# Altium integrated library diode.IntLib: 322 symbols
Pins are listed as number, name and electrical type; pins without a type are passive.

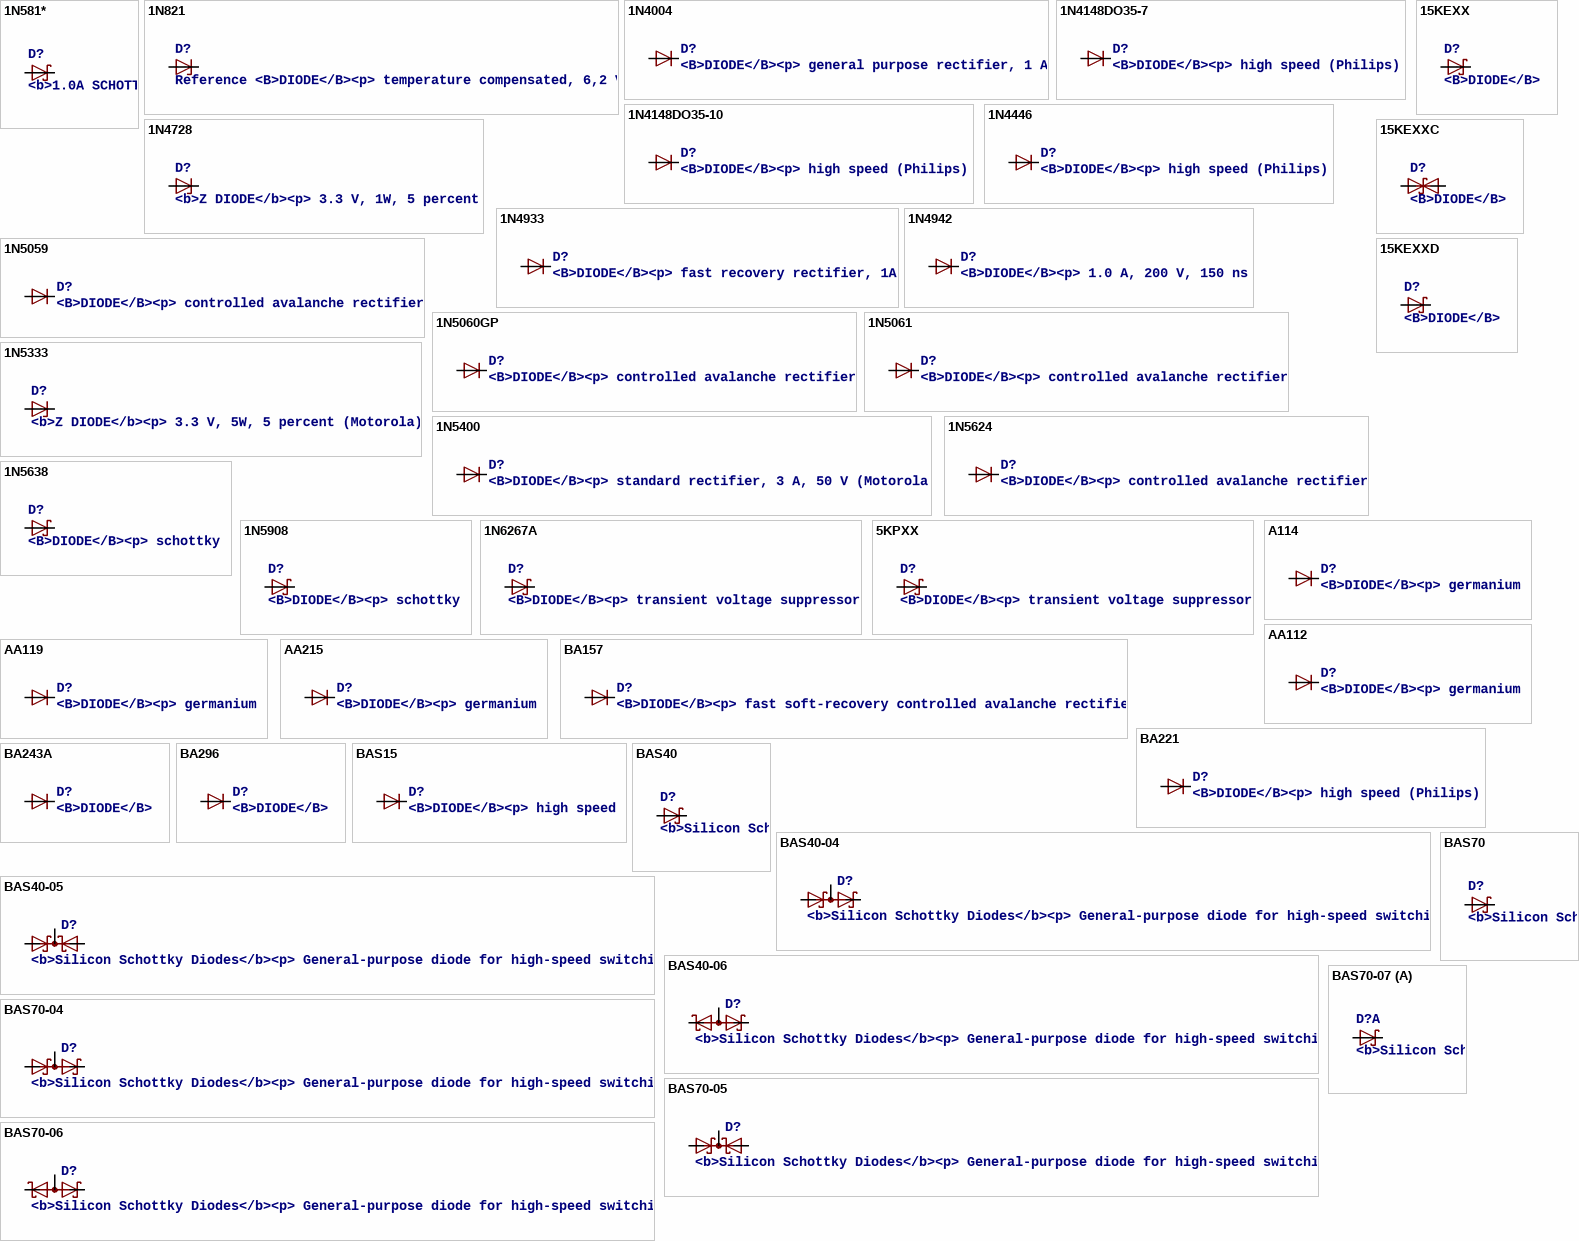
[diagram p0: symbols 1N581* to BAS70-07]

## 1N581*
designator D?, comment <b>1.0A SCHOTTKY BARRIER RECTIFIER</b><p> / Source: http://www.diodes.com/datasheets/ds23001.pdf
footprint DO41-7.6
pins: A, C

## 1N821
designator D?, comment Reference <B>DIODE</B><p> / temperature compensated, 6,2 V
footprint DO35Z10
pins: A, C

## 1N4004
designator D?, comment <B>DIODE</B><p> / general purpose rectifier, 1 A
footprint DO41-10
pins: A, C

## 1N4148DO35-7
designator D?, comment <B>DIODE</B><p> / high speed (Philips)
footprint DO35-7
pins: A, C

## 1N4148DO35-10
designator D?, comment <B>DIODE</B><p> / high speed (Philips)
footprint DO35-10
pins: A, C

## 1N4446
designator D?, comment <B>DIODE</B><p> / high speed (Philips)
footprint DO35-10
pins: A, C

## 1N4728
designator D?, comment <b>Z DIODE</b><p> / 3.3 V, 1W, 5 percent
footprint DO41Z10
pins: A, C

## 1N4933
designator D?, comment <B>DIODE</B><p> / fast recovery rectifier, 1A
footprint DO41-10
pins: A, C

## 1N4942
designator D?, comment <B>DIODE</B><p> / 1.0 A, 200 V, 150 ns
footprint DO41-10
pins: A, C

## 1N5059
designator D?, comment <B>DIODE</B><p> / controlled avalanche rectifier
footprint DO204-10
pins: A, C

## 1N5060GP
designator D?, comment <B>DIODE</B><p> / controlled avalanche rectifier
footprint DO15-12
pins: A, C

## 1N5061
designator D?, comment <B>DIODE</B><p> / controlled avalanche rectifier
footprint SOD57-10
pins: A, C

## 1N5333
designator D?, comment <b>Z DIODE</b><p> / 3.3 V, 5W, 5 percent (Motorola)
footprint C1702-15
pins: A, C

## 1N5400
designator D?, comment <B>DIODE</B><p> / standard rectifier, 3 A, 50 V (Motorola)
footprint DO201-15
pins: A, C

## 1N5624
designator D?, comment <B>DIODE</B><p> / controlled avalanche rectifier
footprint DO201-15
pins: A, C

## 1N5638
designator D?, comment <B>DIODE</B><p> / schottky
footprint DO13M
pins: A, C

## 1N5908
designator D?, comment <B>DIODE</B><p> / schottky
footprint C4111-15
pins: A, C

## 1N6267A
designator D?, comment <B>DIODE</B><p> / transient voltage suppressor
footprint C4111-15
pins: A, C

## 5KPXX
designator D?, comment <B>DIODE</B><p> / transient voltage suppressor
footprint P6T15
pins: A, C

## 15KEXX
designator D?, comment <B>DIODE</B>
footprint CB429-17
pins: A, C

## 15KEXXC
designator D?, comment <B>DIODE</B>
footprint CB429-17
pins: A 1, C 2

## 15KEXXD
designator D?, comment <B>DIODE</B>
footprint DO201T15
pins: A, C

## A114
designator D?, comment <B>DIODE</B><p> / germanium
footprint DO204-10
pins: A, C

## AA112
designator D?, comment <B>DIODE</B><p> / germanium
footprint DO07
pins: A, C

## AA119
designator D?, comment <B>DIODE</B><p> / germanium
footprint DO07
pins: A, C

## AA215
designator D?, comment <B>DIODE</B><p> / germanium
footprint DO07
pins: A, C

## BA157
designator D?, comment <B>DIODE</B><p> / fast soft-recovery controlled avalanche rectifier
footprint P1-10
pins: A, C

## BA221
designator D?, comment <B>DIODE</B><p> / high speed (Philips)
footprint DO35-10
pins: A, C

## BA243A
designator D?, comment <B>DIODE</B>
footprint DO35-10
pins: A, C

## BA296
designator D?, comment <B>DIODE</B>
footprint P2-15
pins: A, C

## BAS15
designator D?, comment <B>DIODE</B><p> / high speed
footprint DO34-7
pins: A, C

## BAS40
designator D?, comment <b>Silicon Schottky Diodes</b><p> / General-purpose diode for high-speed switching
footprint SOT23
pins: 1 A, 3 C

## BAS40-04
designator D?, comment <b>Silicon Schottky Diodes</b><p> / General-purpose diode for high-speed switching
footprint SOT23
pins: 1 A1, 2 C2, 3 C1A2

## BAS40-05
designator D?, comment <b>Silicon Schottky Diodes</b><p> / General-purpose diode for high-speed switching
footprint SOT23
pins: 1 A1, 2 A2, 3 C

## BAS40-06
designator D?, comment <b>Silicon Schottky Diodes</b><p> / General-purpose diode for high-speed switching
footprint SOT23
pins: 1 K1, 2 K2, 3 AA

## BAS70
designator D?, comment <b>Silicon Schottky Diodes</b><p> / General-purpose diode for high-speed switching
footprint SOT23
pins: 1 A, 3 C

## BAS70-04
designator D?, comment <b>Silicon Schottky Diodes</b><p> / General-purpose diode for high-speed switching
footprint SOT23
pins: 1 A1, 2 C2, 3 C1A2

## BAS70-05
designator D?, comment <b>Silicon Schottky Diodes</b><p> / General-purpose diode for high-speed switching
footprint SOT23
pins: 1 A1, 2 A2, 3 C

## BAS70-06
designator D?, comment <b>Silicon Schottky Diodes</b><p> / General-purpose diode for high-speed switching
footprint SOT23
pins: 1 K1, 2 K2, 3 AA

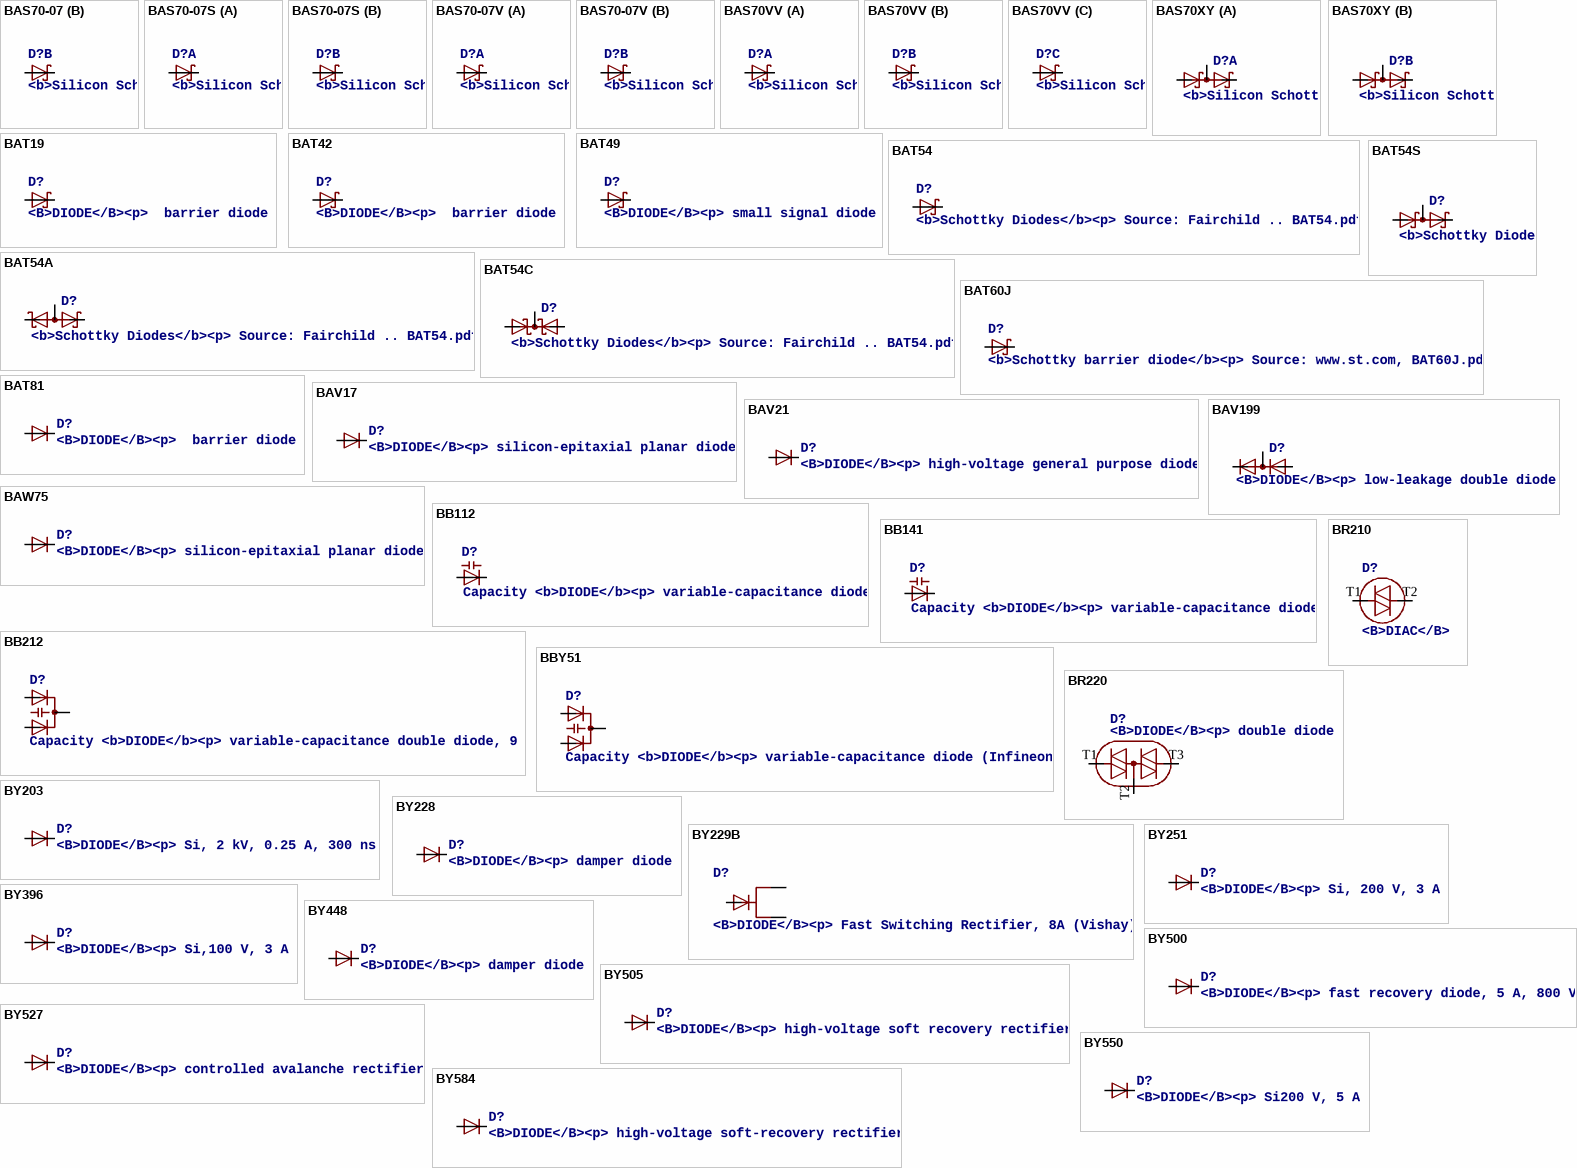
[diagram p1: symbols BAS70-07 to BY584]

## BAS70-07
designator D?, comment <b>Silicon Schottky Diodes</b><p> / General-purpose diode for high-speed switching<br> / Source: BAS70_1PS7XSB70_SER_8.pdf
footprint SOT143-R
part A pins: 1 C, 4 A
part B pins: 2 C, 3 A

## BAS70-07S
designator D?, comment <b>Silicon Schottky Diodes</b><p> / General-purpose diode for high-speed switching<br> / Source: BAS70_1PS7XSB70_SER_8.pdf
footprint SOT363_PHILIPS
part A pins: 1 A, 6 C
part B pins: 3 C, 4 A

## BAS70-07V
designator D?, comment <b>Silicon Schottky Diodes</b><p> / General-purpose diode for high-speed switching<br> / Source: BAS70_1PS7XSB70_SER_8.pdf
footprint SOT666
part A pins: 1 A, 6 C
part B pins: 3 C, 4 A

## BAS70VV
designator D?, comment <b>Silicon Schottky Diodes</b><p> / General-purpose diode for high-speed switching<br> / Source: BAS70_1PS7XSB70_SER_8.pdf
footprint SOT666
part A pins: 1 A, 6 C
part B pins: 2 A, 5 C
part C pins: 3 A, 4 C

## BAS70XY
designator D?, comment <b>Silicon Schottky Diodes</b><p> / General-purpose diode for high-speed switching<br> / Source: BAS70_1PS7XSB70_SER_8.pdf
footprint SOT363_PHILIPS
part A pins: 1 A1, 2 C2, 6 C1A2
part B pins: 3 C1A2, 4 A1, 5 C2

## BAT19
designator D?, comment <B>DIODE</B><p> / barrier diode
footprint DO35-10
pins: A, C

## BAT42
designator D?, comment <B>DIODE</B><p> / barrier diode
footprint DO35-10
pins: A, C

## BAT49
designator D?, comment <B>DIODE</B><p> / small signal diode
footprint DO41-10
pins: A, C

## BAT54
designator D?, comment <b>Schottky Diodes</b><p> / Source: Fairchild .. BAT54.pdf
footprint SOT23
pins: 1 A, 3 C

## BAT54A
designator D?, comment <b>Schottky Diodes</b><p> / Source: Fairchild .. BAT54.pdf
footprint SOT23
pins: 1 K1, 2 K2, 3 AA

## BAT54C
designator D?, comment <b>Schottky Diodes</b><p> / Source: Fairchild .. BAT54.pdf
footprint SOT23
pins: 1 A1, 2 A2, 3 CC

## BAT54S
designator D?, comment <b>Schottky Diodes</b><p> / Pin connection corrected 2011-05-04<br> / Source: Fairchild .. BAT54.pdf
footprint SOT23
pins: 1 A1, 2 C2, 3 C1A2

## BAT60J
designator D?, comment <b>Schottky barrier diode</b><p> / Source: www.st.com, BAT60J.pdf
footprint SOD323_ST
pins: A, C

## BAT81
designator D?, comment <B>DIODE</B><p> / barrier diode
footprint DO34-7
pins: A, C

## BAV17
designator D?, comment <B>DIODE</B><p> / silicon-epitaxial planar diode
footprint DO35-10
pins: A, C

## BAV21
designator D?, comment <B>DIODE</B><p> / high-voltage general purpose diode
footprint DO35-10
pins: A, C

## BAV199
designator D?, comment <B>DIODE</B><p> / low-leakage double diode
footprint SOT23
pins: 1 A, 2 C, 3 AC

## BAW75
designator D?, comment <B>DIODE</B><p> / silicon-epitaxial planar diode
footprint DO35-10
pins: A, C

## BB112
designator D?, comment Capacity <b>DIODE</b><p> / variable-capacitance diode
footprint SOT54H
pins: A, C

## BB141
designator D?, comment Capacity <b>DIODE</b><p> / variable-capacitance diode
footprint SOD523
pins: A, C

## BB212
designator D?, comment Capacity <b>DIODE</b><p> / variable-capacitance double diode, 9 V
footprint SOT54E
pins: A1, A2, C

## BBY51
designator D?, comment Capacity <b>DIODE</b><p> / variable-capacitance diode (Infineon)
footprint SOT23
pins: 1 A1, 2 A2, 3 C

## BR210
designator D?, comment <B>DIAC</B>
footprint BR210S
pins: T1, T2

## BR220
designator D?, comment <B>DIODE</B><p> / double diode
footprint BR220S
pins: T1, T2, T3

## BY203
designator D?, comment <B>DIODE</B><p> / Si, 2 kV, 0.25 A, 300 ns
footprint SGA-10
pins: A, C

## BY228
designator D?, comment <B>DIODE</B><p> / damper diode
footprint SOD64-10
pins: A, C

## BY229B
designator D?, comment <B>DIODE</B><p> / Fast Switching Rectifier, 8A (Vishay)
footprint TO263AB
pins: 1, 2, K

## BY251
designator D?, comment <B>DIODE</B><p> / Si, 200 V, 3 A
footprint DO201-15
pins: A, C

## BY396
designator D?, comment <B>DIODE</B><p> / Si,100 V, 3 A
footprint DO201-15
pins: A, C

## BY448
designator D?, comment <B>DIODE</B><p> / damper diode
footprint SOD57-10
pins: A, C

## BY500
designator D?, comment <B>DIODE</B><p> / fast recovery diode, 5 A, 800 V
footprint DO201-15
pins: A, C

## BY505
designator D?, comment <B>DIODE</B><p> / high-voltage soft recovery rectifier
footprint SOD61A
pins: A, C

## BY527
designator D?, comment <B>DIODE</B><p> / controlled avalanche rectifier
footprint SOD57Z10
pins: A, C

## BY550
designator D?, comment <B>DIODE</B><p> / Si200 V, 5 A
footprint DO27-15
pins: A, C

## BY584
designator D?, comment <B>DIODE</B><p> / high-voltage soft-recovery rectifier
footprint SOD61A
pins: A, C

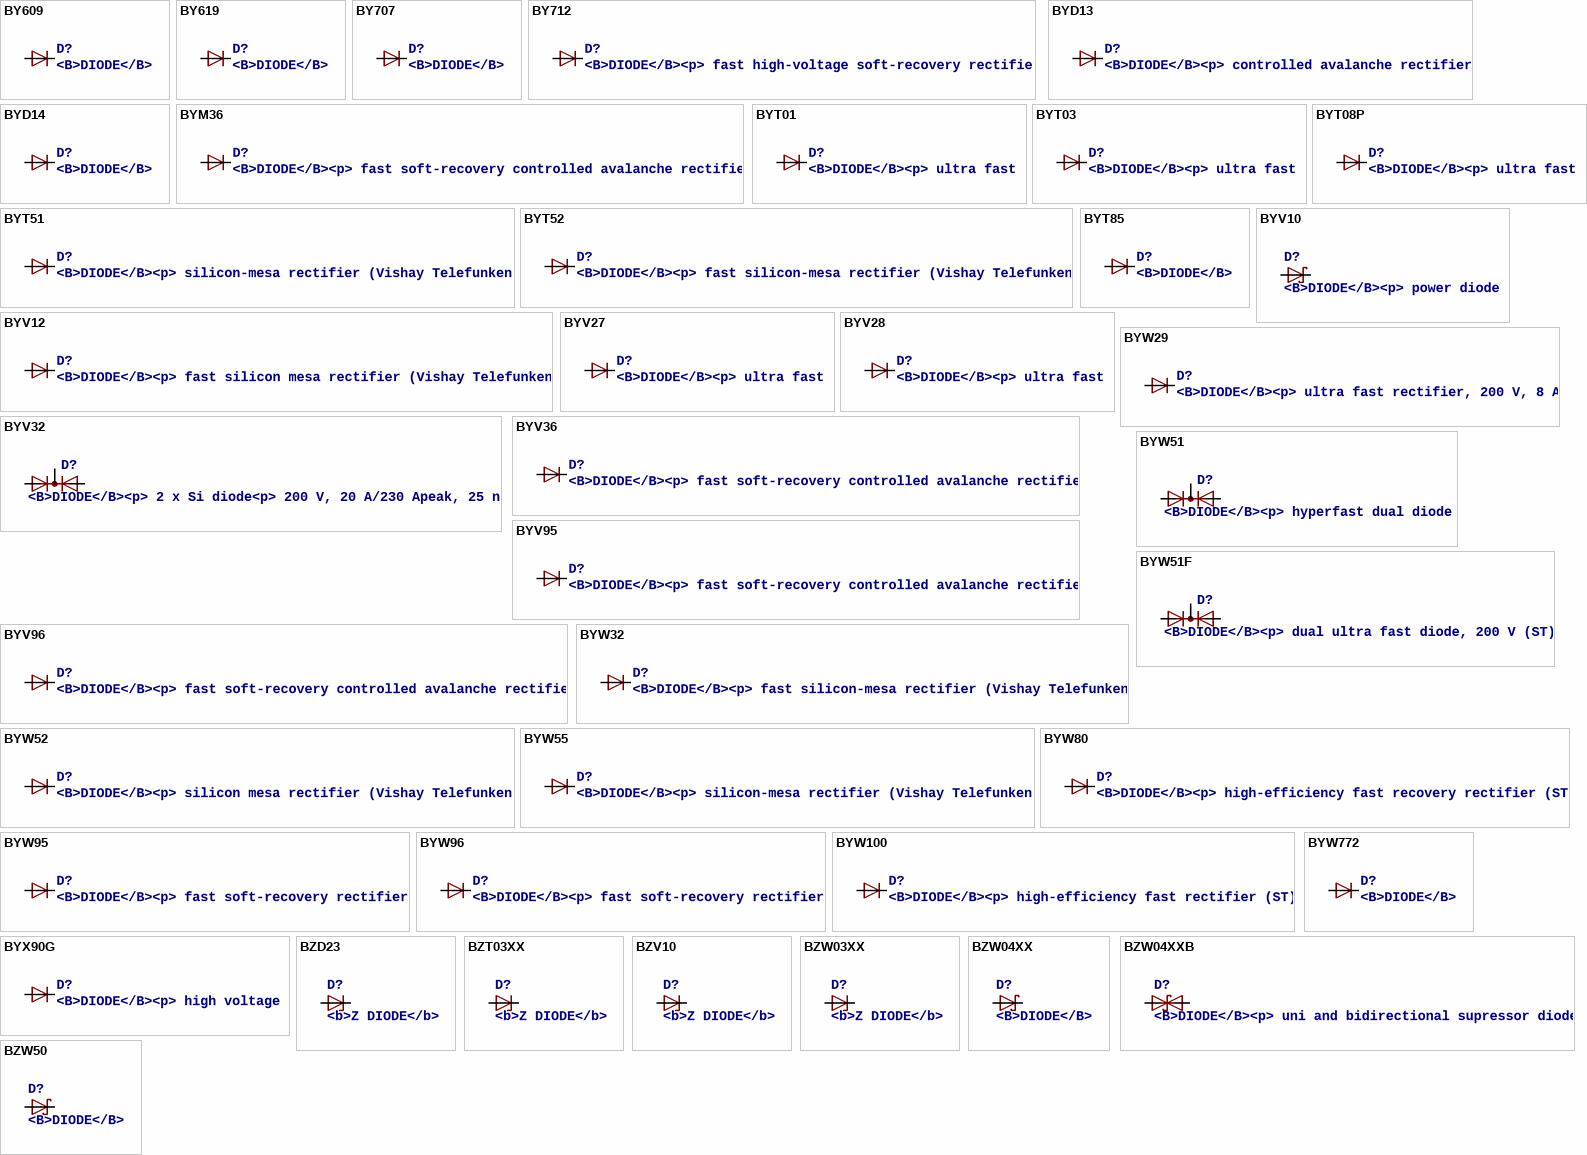
[diagram p2: symbols BY609 to BZW50]

## BY609
designator D?, comment <B>DIODE</B>
footprint SOD61B
pins: A, C

## BY619
designator D?, comment <B>DIODE</B>
footprint SOD61C
pins: A, C

## BY707
designator D?, comment <B>DIODE</B>
footprint SOD61D
pins: A, C

## BY712
designator D?, comment <B>DIODE</B><p> / fast high-voltage soft-recovery rectifier
footprint SOD61E
pins: A, C

## BYD13
designator D?, comment <B>DIODE</B><p> / controlled avalanche rectifier
footprint SOD81
pins: A, C

## BYD14
designator D?, comment <B>DIODE</B>
footprint SOD84
pins: A, C

## BYM36
designator D?, comment <B>DIODE</B><p> / fast soft-recovery controlled avalanche rectifier
footprint SOD64-10
pins: A, C

## BYT01
designator D?, comment <B>DIODE</B><p> / ultra fast
footprint F126-10
pins: A, C

## BYT03
designator D?, comment <B>DIODE</B><p> / ultra fast
footprint DO27-15
pins: A, C

## BYT08P
designator D?, comment <B>DIODE</B><p> / ultra fast
footprint TO220ACS
pins: A, C

## BYT51
designator D?, comment <B>DIODE</B><p> / silicon-mesa rectifier (Vishay Telefunken)
footprint SGA-10
pins: A, C

## BYT52
designator D?, comment <B>DIODE</B><p> / fast silicon-mesa rectifier (Vishay Telefunken)
footprint SGA-10
pins: A, C

## BYT85
designator D?, comment <B>DIODE</B>
footprint DO220S
pins: A, C

## BYV10
designator D?, comment <B>DIODE</B><p> / power diode
footprint DO41-10
pins: A, C

## BYV12
designator D?, comment <B>DIODE</B><p> / fast silicon mesa rectifier (Vishay Telefunken)
footprint SGA-10
pins: A, C

## BYV27
designator D?, comment <B>DIODE</B><p> / ultra fast
footprint SOD57-10
pins: A, C

## BYV28
designator D?, comment <B>DIODE</B><p> / ultra fast
footprint SOD64-10
pins: A, C

## BYV32
designator D?, comment <B>DIODE</B><p> / 2 x Si diode<p> / 200 V, 20 A/230 Apeak, 25 ns
footprint TO220ABS
pins: A1, A2, C

## BYV36
designator D?, comment <B>DIODE</B><p> / fast soft-recovery controlled avalanche rectifier
footprint SOD57-10
pins: A, C

## BYV95
designator D?, comment <B>DIODE</B><p> / fast soft-recovery controlled avalanche rectifier
footprint SOD57-10
pins: A, C

## BYV96
designator D?, comment <B>DIODE</B><p> / fast soft-recovery controlled avalanche rectifier
footprint SOD57-10
pins: A, C

## BYW29
designator D?, comment <B>DIODE</B><p> / ultra fast rectifier, 200 V, 8 A
footprint DO220S
pins: A, C

## BYW32
designator D?, comment <B>DIODE</B><p> / fast silicon-mesa rectifier (Vishay Telefunken)
footprint DO204-10
pins: A, C

## BYW51
designator D?, comment <B>DIODE</B><p> / hyperfast dual diode
footprint TO220ABS
pins: A1, A2, C

## BYW51F
designator D?, comment <B>DIODE</B><p> / dual ultra fast diode, 200 V (ST)
footprint IW220ABS
pins: A1, A2, C

## BYW52
designator D?, comment <B>DIODE</B><p> / silicon mesa rectifier (Vishay Telefunken)
footprint DO204-10
pins: A, C

## BYW55
designator D?, comment <B>DIODE</B><p> / silicon-mesa rectifier (Vishay Telefunken)
footprint SOD57-10
pins: A, C

## BYW80
designator D?, comment <B>DIODE</B><p> / high-efficiency fast recovery rectifier (ST)
footprint TO220ACS
pins: A, C

## BYW95
designator D?, comment <B>DIODE</B><p> / fast soft-recovery rectifier
footprint SOD64-10
pins: A, C

## BYW96
designator D?, comment <B>DIODE</B><p> / fast soft-recovery rectifier
footprint SOD64-10
pins: A, C

## BYW100
designator D?, comment <B>DIODE</B><p> / high-efficiency fast rectifier (ST)
footprint F126-10
pins: A, C

## BYW772
designator D?, comment <B>DIODE</B>
footprint G4-12
pins: A, C

## BYX90G
designator D?, comment <B>DIODE</B><p> / high voltage
footprint SOD83-12
pins: A, C

## BZD23
designator D?, comment <b>Z DIODE</b>
footprint SOD81
pins: A, C

## BZT03XX
designator D?, comment <b>Z DIODE</b>
footprint SOD57Z10
pins: A, C

## BZV10
designator D?, comment <b>Z DIODE</b>
footprint DO34Z7
pins: A, C

## BZW03XX
designator D?, comment <b>Z DIODE</b>
footprint SOD64Z12
pins: A, C

## BZW04XX
designator D?, comment <B>DIODE</B>
footprint F126Z12
pins: A, C

## BZW04XXB
designator D?, comment <B>DIODE</B><p> / uni and bidirectional supressor diode
footprint F126Z12
pins: A 1, C 2

## BZW50
designator D?, comment <B>DIODE</B>
footprint AG
pins: A, C

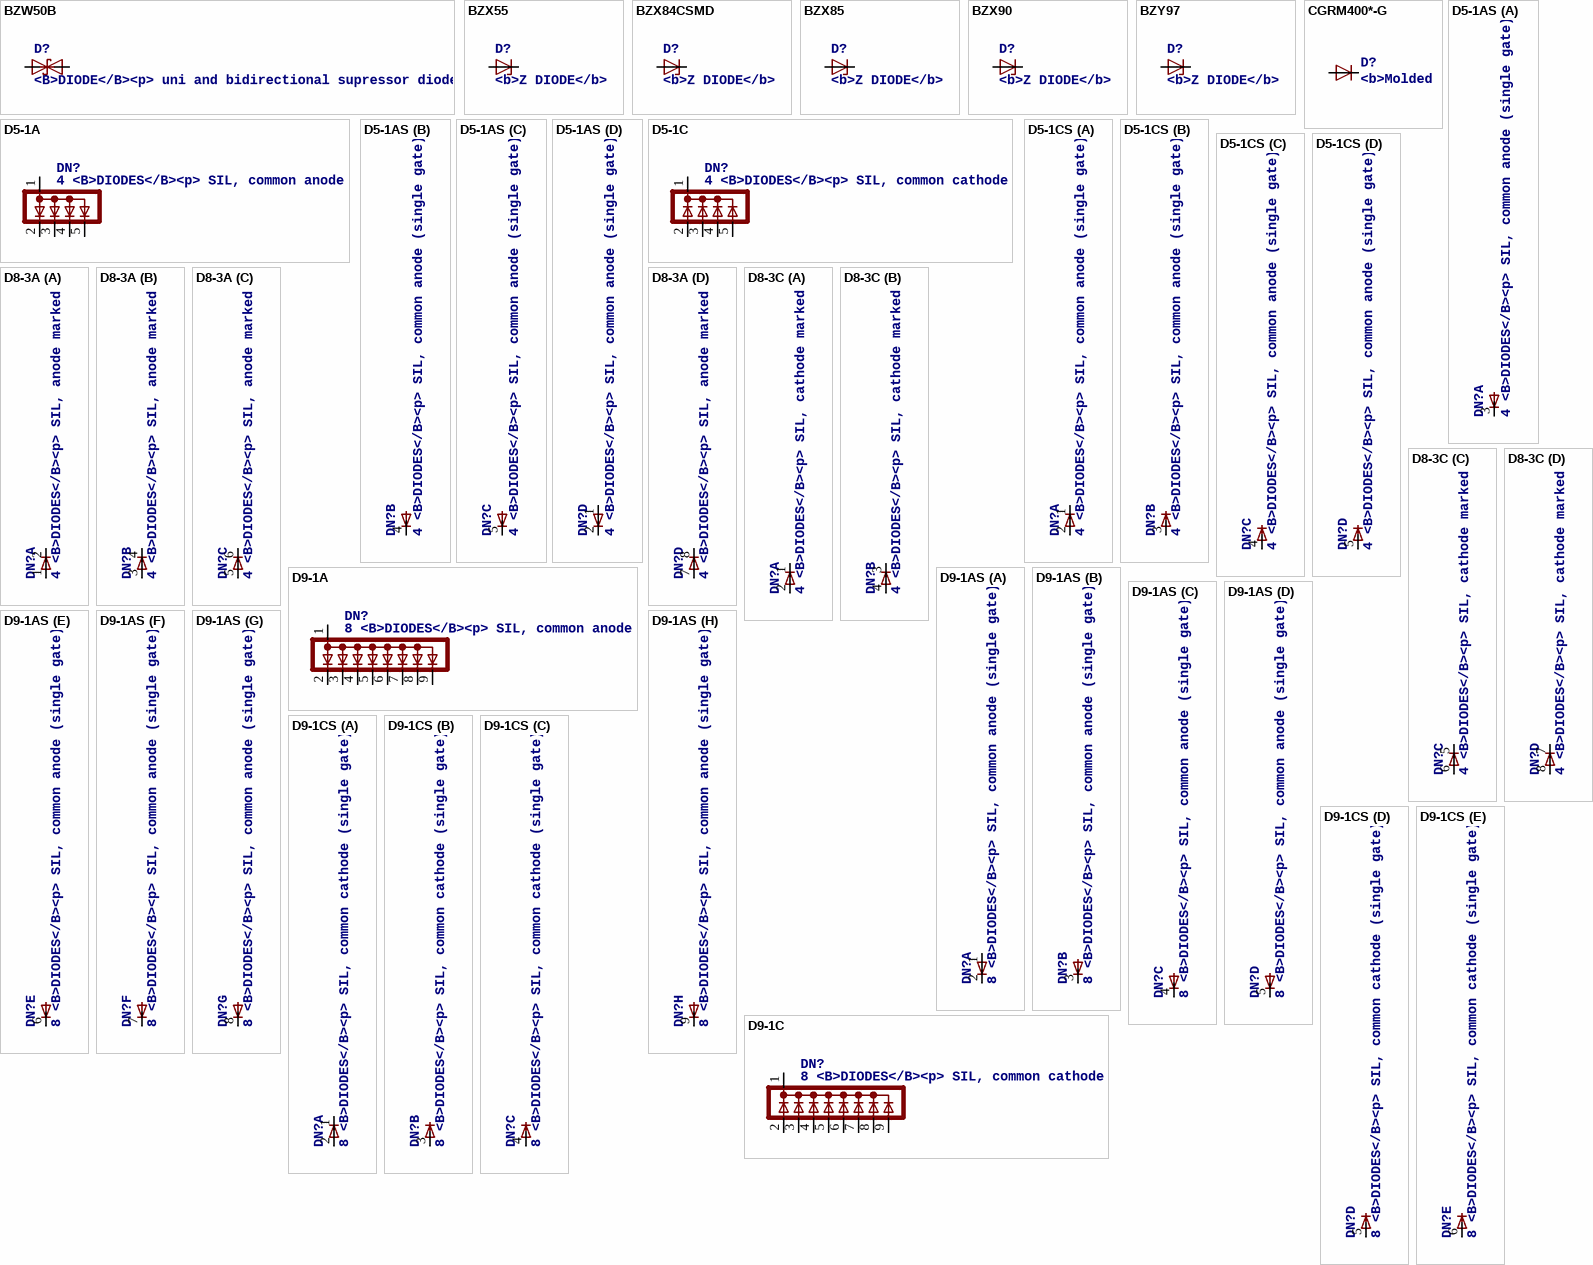
[diagram p3: symbols BZW50B to D9-1CS]

## BZW50B
designator D?, comment <B>DIODE</B><p> / uni and bidirectional supressor diode
footprint AG
pins: A 1, C 2

## BZX55
designator D?, comment <b>Z DIODE</b>
footprint DO35Z10
pins: A, C

## BZX84CSMD
designator D?, comment <b>Z DIODE</b>
footprint TO236
pins: A, C

## BZX85
designator D?, comment <b>Z DIODE</b>
footprint DO41Z10
pins: A, C

## BZX90
designator D?, comment <b>Z DIODE</b>
footprint DO34Z7
pins: A, C

## BZY97
designator D?, comment <b>Z DIODE</b>
footprint F126Z12
pins: A, C

## CGRM400*-G
designator D?, comment <b>Molded plasitc,JEDEC SOD-123/Mini SMA</b><p> / Source: Comchip CGRM4001-G.pdf
footprint SOD-123_MINI-SMA
pins: A, C

## D5-1A
designator DN?, comment 4 <B>DIODES</B><p> / SIL, common anode
footprint SIL05A
pins: 1 A, 2 C2, 3 C3, 4 C4, 5 C5

## D5-1AS
designator DN?, comment 4 <B>DIODES</B><p> / SIL, common anode (single gate)
footprint SIL05A
part A pins: 3 C
part B pins: 4 C
part C pins: 5 C
part D pins: 1 A, 2 C

## D5-1C
designator DN?, comment 4 <B>DIODES</B><p> / SIL, common cathode
footprint SIL05C
pins: 1 C, 2, 3, 4, 5

## D5-1CS
designator DN?, comment 4 <B>DIODES</B><p> / SIL, common anode (single gate)
footprint SIL05C
part A pins: 1 C, 2 A
part B pins: 3 A
part C pins: 4 A
part D pins: 5 A

## D8-3A
designator DN?, comment 4 <B>DIODES</B><p> / SIL, anode marked
footprint SIL08A
part A pins: 1 A, 2 C
part B pins: 3 A, 4 C
part C pins: 5 A, 6 C
part D pins: 7 A, 8 C

## D8-3C
designator DN?, comment 4 <B>DIODES</B><p> / SIL, cathode marked
footprint SIL08C
part A pins: 1 C, 2 A
part B pins: 3 C, 4 A
part C pins: 5 C, 6 A
part D pins: 7 C, 8 A

## D9-1A
designator DN?, comment 8 <B>DIODES</B><p> / SIL, common anode
footprint SIL09A
pins: 1 A, 2 C2, 3 C3, 4 C4, 5 C5, 6 C6, 7 C7, 8 C8, 9 C9

## D9-1AS
designator DN?, comment 8 <B>DIODES</B><p> / SIL, common anode (single gate)
footprint SIL09A
part A pins: 1 A, 2 C
part B pins: 3 C
part C pins: 4 C
part D pins: 5 C
part E pins: 6 C
part F pins: 7 C
part G pins: 8 C
part H pins: 9 C

## D9-1C
designator DN?, comment 8 <B>DIODES</B><p> / SIL, common cathode
footprint SIL09C
pins: 1 C, 2, 3, 4, 5, 6, 7, 8, 9

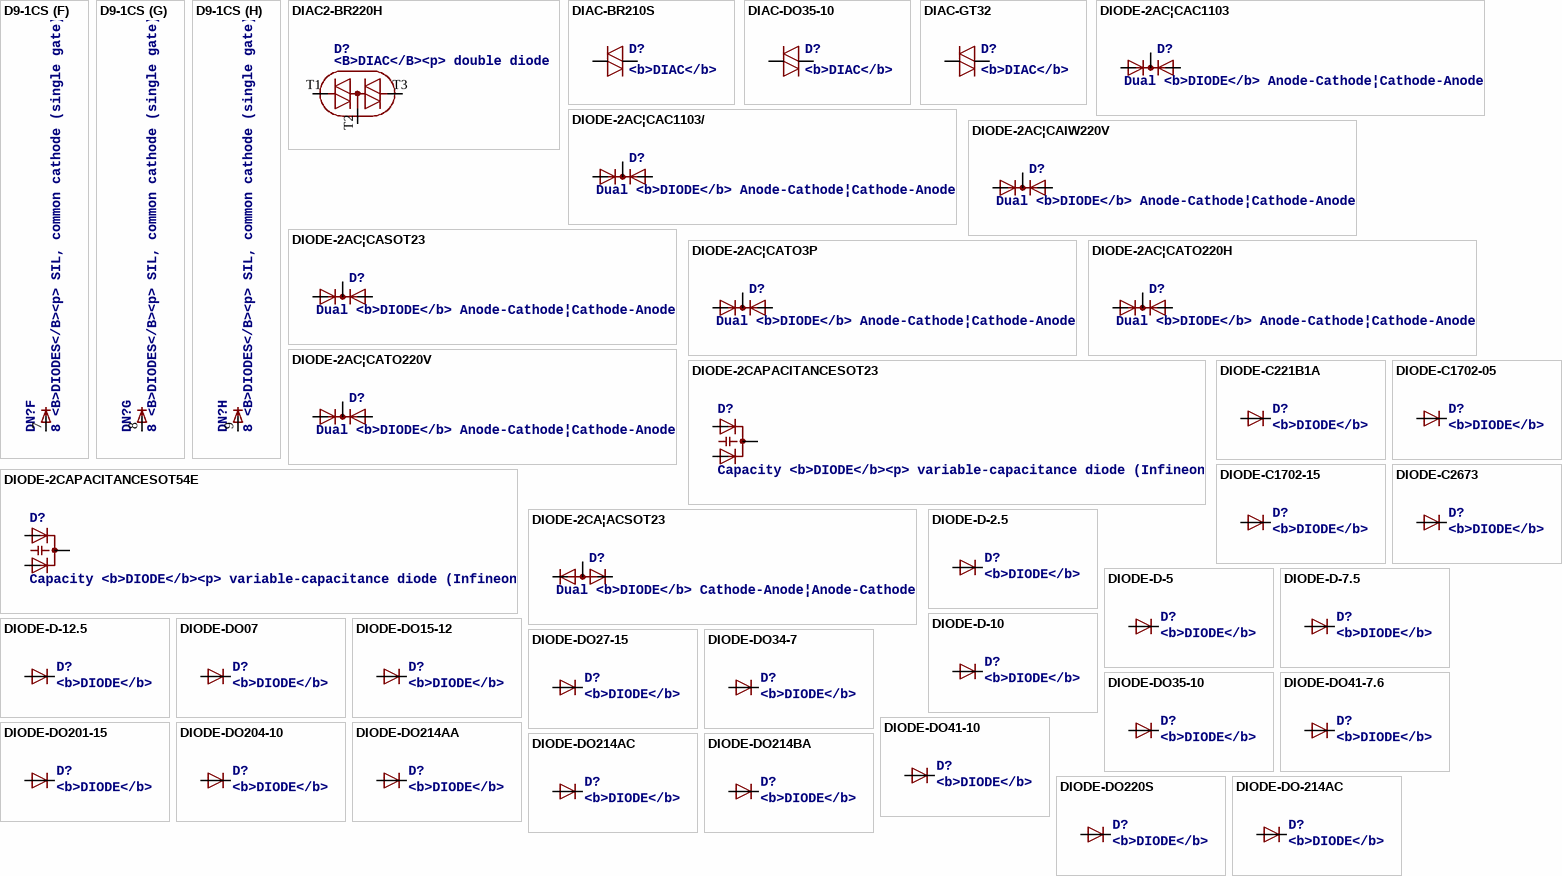
[diagram p4: symbols D9-1CS to DIODE-DO-214AC]

## D9-1CS
designator DN?, comment 8 <B>DIODES</B><p> / SIL, common cathode (single gate)
footprint SIL09C
part A pins: 1 C, 2 A
part B pins: 3 A
part C pins: 4 A
part D pins: 5 A
part E pins: 6 A
part F pins: 7 A
part G pins: 8 A
part H pins: 9 A

## DIAC2-BR220H
designator D?, comment <B>DIAC</B><p> / double diode
footprint BR220S
pins: T1, T2, T3

## DIAC-BR210S
designator D?, comment <b>DIAC</b>
footprint BR210S
pins: T1 1, T2 2

## DIAC-DO35-10
designator D?, comment <b>DIAC</b>
footprint DO35-10
pins: A 1, C 2

## DIAC-GT32
designator D?, comment <b>DIAC</b>
footprint GT32
pins: 1, 2

## DIODE-2AC|CAC1103
designator D?, comment Dual <b>DIODE</b> Anode-Cathode|Cathode-Anode
footprint C1103
pins: A1, A2, C C@1 C

## DIODE-2AC|CAC1103/
designator D?, comment Dual <b>DIODE</b> Anode-Cathode|Cathode-Anode
footprint C1103/
pins: A1, A2, C C@1 C

## DIODE-2AC|CAIW220V
designator D?, comment Dual <b>DIODE</b> Anode-Cathode|Cathode-Anode
footprint IW220ABS
pins: A1, A2, C

## DIODE-2AC|CASOT23
designator D?, comment Dual <b>DIODE</b> Anode-Cathode|Cathode-Anode
footprint SOT23
pins: 1 A1, 2 A2, 3 C

## DIODE-2AC|CATO3P
designator D?, comment Dual <b>DIODE</b> Anode-Cathode|Cathode-Anode
footprint TO3P
pins: 1 A1, 2 C, 3 A2

## DIODE-2AC|CATO220H
designator D?, comment Dual <b>DIODE</b> Anode-Cathode|Cathode-Anode
footprint TO220AB
pins: A1, A2, C

## DIODE-2AC|CATO220V
designator D?, comment Dual <b>DIODE</b> Anode-Cathode|Cathode-Anode
footprint TO220ABS
pins: A1, A2, C

## DIODE-2CAPACITANCESOT23
designator D?, comment Capacity <b>DIODE</b><p> / variable-capacitance diode (Infineon)
footprint SOT23
pins: 1 A1, 2 A2, 3 C

## DIODE-2CAPACITANCESOT54E
designator D?, comment Capacity <b>DIODE</b><p> / variable-capacitance diode (Infineon)
footprint SOT54E
pins: A1, A2, C

## DIODE-2CA|ACSOT23
designator D?, comment Dual <b>DIODE</b> Cathode-Anode|Anode-Cathode
footprint SOT23
pins: 1 K1, 2 K2, 3 A

## DIODE-C221B1A
designator D?, comment <b>DIODE</b>
footprint C221B1A
pins: A, C

## DIODE-C1702-05
designator D?, comment <b>DIODE</b>
footprint C1702-05
pins: A, C

## DIODE-C1702-15
designator D?, comment <b>DIODE</b>
footprint C1702-15
pins: A, C

## DIODE-C2673
designator D?, comment <b>DIODE</b>
footprint C2673
pins: A, C

## DIODE-D-2.5
designator D?, comment <b>DIODE</b>
footprint D-2.5
pins: A, C

## DIODE-D-5
designator D?, comment <b>DIODE</b>
footprint D-5
pins: A, C

## DIODE-D-7.5
designator D?, comment <b>DIODE</b>
footprint D-7.5
pins: A, C

## DIODE-D-10
designator D?, comment <b>DIODE</b>
footprint D-10
pins: A, C

## DIODE-D-12.5
designator D?, comment <b>DIODE</b>
footprint D-12.5
pins: A, C

## DIODE-DO07
designator D?, comment <b>DIODE</b>
footprint DO07
pins: A, C

## DIODE-DO15-12
designator D?, comment <b>DIODE</b>
footprint DO15-12
pins: A, C

## DIODE-DO27-15
designator D?, comment <b>DIODE</b>
footprint DO27-15
pins: A, C

## DIODE-DO34-7
designator D?, comment <b>DIODE</b>
footprint DO34-7
pins: A, C

## DIODE-DO35-10
designator D?, comment <b>DIODE</b>
footprint DO35-10
pins: A, C

## DIODE-DO41-7.6
designator D?, comment <b>DIODE</b>
footprint DO41-7.6
pins: A, C

## DIODE-DO41-10
designator D?, comment <b>DIODE</b>
footprint DO41-10
pins: A, C

## DIODE-DO201-15
designator D?, comment <b>DIODE</b>
footprint DO201-15
pins: A, C

## DIODE-DO204-10
designator D?, comment <b>DIODE</b>
footprint DO204-10
pins: A, C

## DIODE-DO214AA
designator D?, comment <b>DIODE</b>
footprint DO214AA
pins: A, C

## DIODE-DO214AC
designator D?, comment <b>DIODE</b>
footprint DO214AC
pins: A, C

## DIODE-DO214BA
designator D?, comment <b>DIODE</b>
footprint DO214BA
pins: A, C

## DIODE-DO220S
designator D?, comment <b>DIODE</b>
footprint DO220S
pins: A, C

## DIODE-DO-214AC
designator D?, comment <b>DIODE</b>
footprint DO-214AC
pins: A, C

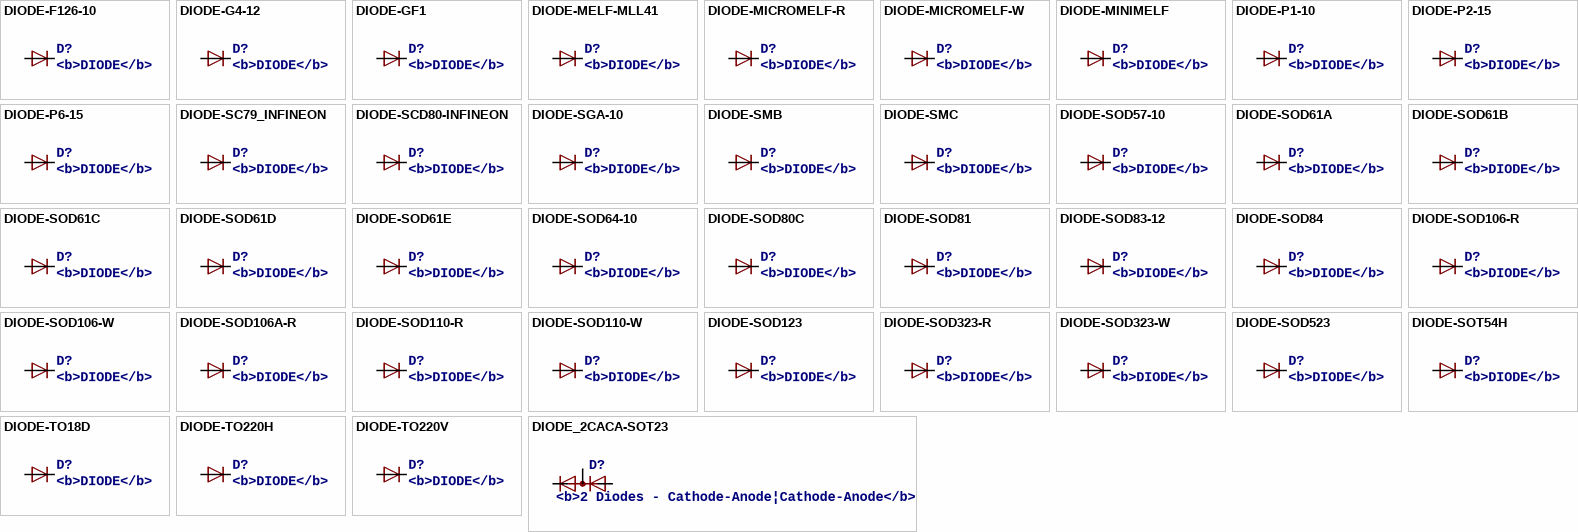
[diagram p5: symbols DIODE-F126-10 to DIODE_2CACA-SOT23]

## DIODE-F126-10
designator D?, comment <b>DIODE</b>
footprint F126-10
pins: A, C

## DIODE-G4-12
designator D?, comment <b>DIODE</b>
footprint G4-12
pins: A, C

## DIODE-GF1
designator D?, comment <b>DIODE</b>
footprint GF1
pins: A, C

## DIODE-MELF-MLL41
designator D?, comment <b>DIODE</b>
footprint MELF-MLL41
pins: A, C

## DIODE-MICROMELF-R
designator D?, comment <b>DIODE</b>
footprint MICROMELF-R
pins: A, C

## DIODE-MICROMELF-W
designator D?, comment <b>DIODE</b>
footprint MICROMELF-W
pins: A, C

## DIODE-MINIMELF
designator D?, comment <b>DIODE</b>
footprint MINIMELF
pins: A, C

## DIODE-P1-10
designator D?, comment <b>DIODE</b>
footprint P1-10
pins: A, C

## DIODE-P2-15
designator D?, comment <b>DIODE</b>
footprint P2-15
pins: A, C

## DIODE-P6-15
designator D?, comment <b>DIODE</b>
footprint P6-15
pins: A, C

## DIODE-SC79_INFINEON
designator D?, comment <b>DIODE</b>
footprint SC79_INFINEON
pins: A, C

## DIODE-SCD80-INFINEON
designator D?, comment <b>DIODE</b>
footprint SCD80_INFINEON
pins: A, C

## DIODE-SGA-10
designator D?, comment <b>DIODE</b>
footprint SGA-10
pins: A, C

## DIODE-SMB
designator D?, comment <b>DIODE</b>
footprint SMB
pins: A, C

## DIODE-SMC
designator D?, comment <b>DIODE</b>
footprint SMC
pins: A, C

## DIODE-SOD57-10
designator D?, comment <b>DIODE</b>
footprint SOD57-10
pins: A, C

## DIODE-SOD61A
designator D?, comment <b>DIODE</b>
footprint SOD61A
pins: A, C

## DIODE-SOD61B
designator D?, comment <b>DIODE</b>
footprint SOD61B
pins: A, C

## DIODE-SOD61C
designator D?, comment <b>DIODE</b>
footprint SOD61C
pins: A, C

## DIODE-SOD61D
designator D?, comment <b>DIODE</b>
footprint SOD61D
pins: A, C

## DIODE-SOD61E
designator D?, comment <b>DIODE</b>
footprint SOD61E
pins: A, C

## DIODE-SOD64-10
designator D?, comment <b>DIODE</b>
footprint SOD64-10
pins: A, C

## DIODE-SOD80C
designator D?, comment <b>DIODE</b>
footprint SOD80C
pins: A, C

## DIODE-SOD81
designator D?, comment <b>DIODE</b>
footprint SOD81
pins: A, C

## DIODE-SOD83-12
designator D?, comment <b>DIODE</b>
footprint SOD83-12
pins: A, C

## DIODE-SOD84
designator D?, comment <b>DIODE</b>
footprint SOD84
pins: A, C

## DIODE-SOD106-R
designator D?, comment <b>DIODE</b>
footprint SOD106-R
pins: A, C

## DIODE-SOD106-W
designator D?, comment <b>DIODE</b>
footprint SOD106-W
pins: A, C

## DIODE-SOD106A-R
designator D?, comment <b>DIODE</b>
footprint SOD106A-R
pins: A, C

## DIODE-SOD110-R
designator D?, comment <b>DIODE</b>
footprint SOD110-R
pins: A, C

## DIODE-SOD110-W
designator D?, comment <b>DIODE</b>
footprint SOD110-W
pins: A, C

## DIODE-SOD123
designator D?, comment <b>DIODE</b>
footprint SOD123
pins: A, C

## DIODE-SOD323-R
designator D?, comment <b>DIODE</b>
footprint SOD323-R
pins: A, C

## DIODE-SOD323-W
designator D?, comment <b>DIODE</b>
footprint SOD323-W
pins: A, C

## DIODE-SOD523
designator D?, comment <b>DIODE</b>
footprint SOD523
pins: A, C

## DIODE-SOT54H
designator D?, comment <b>DIODE</b>
footprint SOT54H
pins: A, C

## DIODE-TO18D
designator D?, comment <b>DIODE</b>
footprint TO18D
pins: A, C

## DIODE-TO220H
designator D?, comment <b>DIODE</b>
footprint TO220AC
pins: A, C

## DIODE-TO220V
designator D?, comment <b>DIODE</b>
footprint TO220ACS
pins: A, C

## DIODE_2CACA-SOT23
designator D?, comment <b>2 Diodes - Cathode-Anode|Cathode-Anode</b>
footprint SOT23
pins: 1 A, 2 C, 3 AC

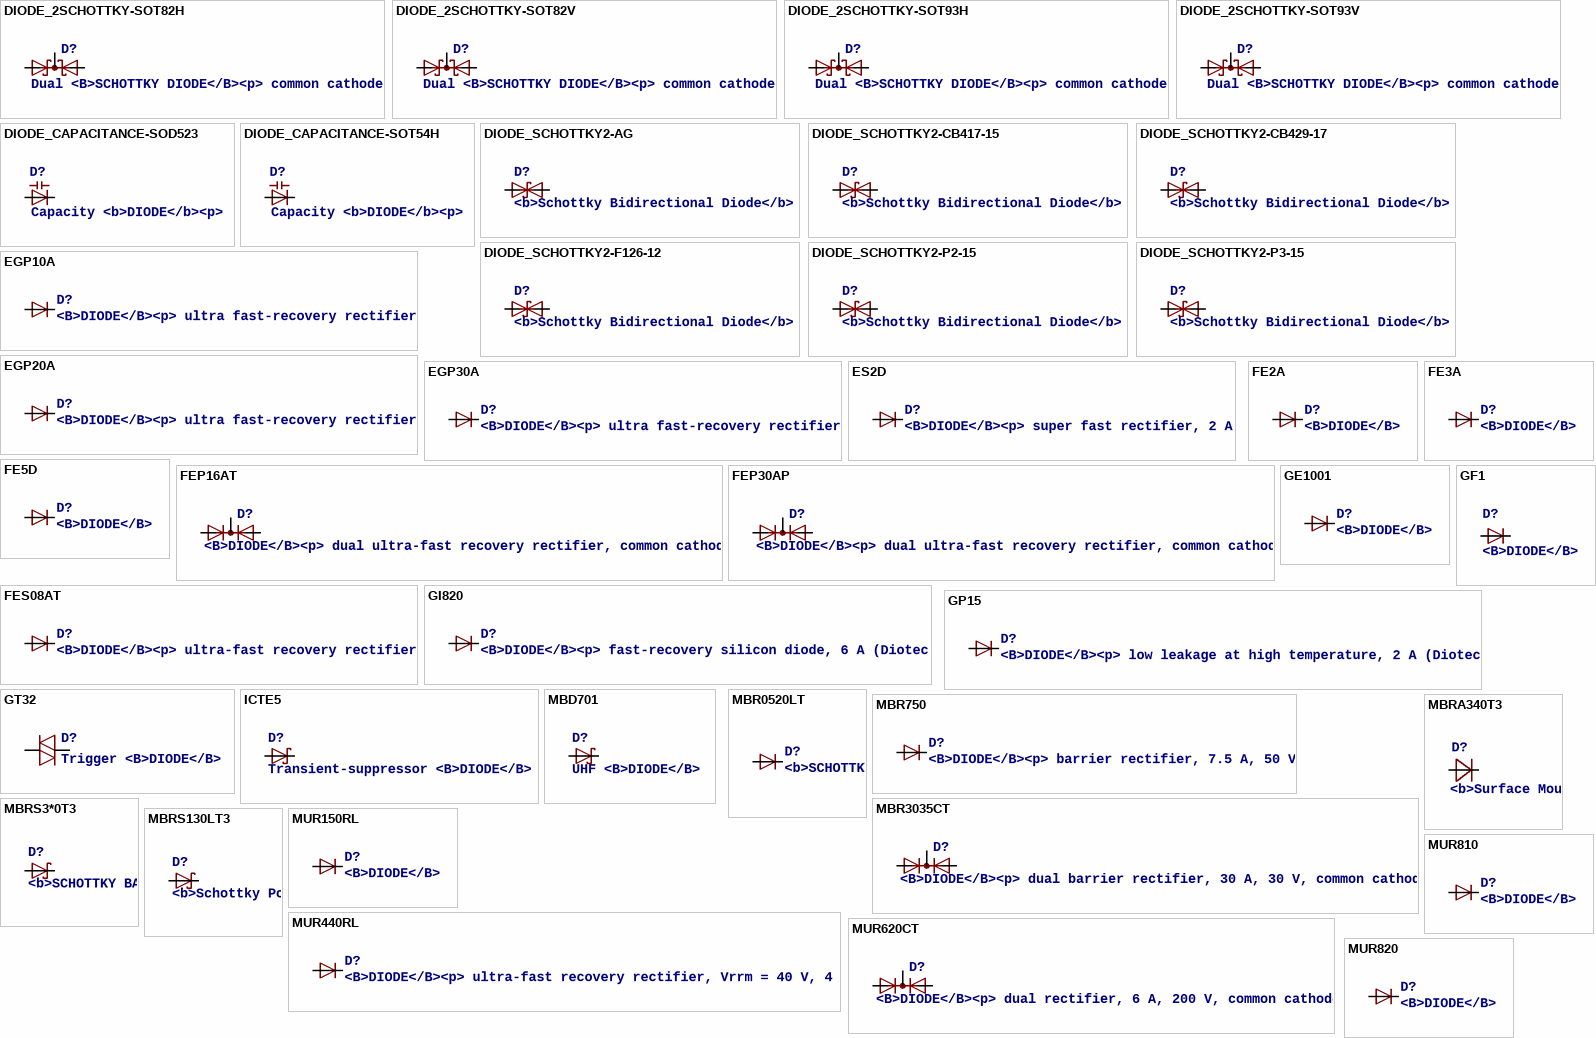
[diagram p6: symbols DIODE_2SCHOTTKY-SOT82H to MUR820]

## DIODE_2SCHOTTKY-SOT82H
designator D?, comment Dual <B>SCHOTTKY DIODE</B><p> / common cathode
footprint SOT82L
pins: A1, A2, C

## DIODE_2SCHOTTKY-SOT82V
designator D?, comment Dual <B>SCHOTTKY DIODE</B><p> / common cathode
footprint SOT82S
pins: A1, A2, C

## DIODE_2SCHOTTKY-SOT93H
designator D?, comment Dual <B>SCHOTTKY DIODE</B><p> / common cathode
footprint SOT93L
pins: A1, A2, C

## DIODE_2SCHOTTKY-SOT93V
designator D?, comment Dual <B>SCHOTTKY DIODE</B><p> / common cathode
footprint SOT93S
pins: A1, A2, C

## DIODE_CAPACITANCE-SOD523
designator D?, comment Capacity <b>DIODE</b><p>
footprint SOD523
pins: A, C

## DIODE_CAPACITANCE-SOT54H
designator D?, comment Capacity <b>DIODE</b><p>
footprint SOT54H
pins: A, C

## DIODE_SCHOTTKY2-AG
designator D?, comment <b>Schottky Bidirectional Diode</b>
footprint AG
pins: A 1, C 2

## DIODE_SCHOTTKY2-CB417-15
designator D?, comment <b>Schottky Bidirectional Diode</b>
footprint CB417-15
pins: A 1, C 2

## DIODE_SCHOTTKY2-CB429-17
designator D?, comment <b>Schottky Bidirectional Diode</b>
footprint CB429-17
pins: A 1, C 2

## DIODE_SCHOTTKY2-F126-12
designator D?, comment <b>Schottky Bidirectional Diode</b>
footprint F126Z12
pins: A 1, C 2

## DIODE_SCHOTTKY2-P2-15
designator D?, comment <b>Schottky Bidirectional Diode</b>
footprint P2-15
pins: A 1, C 2

## DIODE_SCHOTTKY2-P3-15
designator D?, comment <b>Schottky Bidirectional Diode</b>
footprint P3-15
pins: A 1, C 2

## EGP10A
designator D?, comment <B>DIODE</B><p> / ultra fast-recovery rectifier
footprint DO41-10
pins: A, C

## EGP20A
designator D?, comment <B>DIODE</B><p> / ultra fast-recovery rectifier
footprint DO15-12
pins: A, C

## EGP30A
designator D?, comment <B>DIODE</B><p> / ultra fast-recovery rectifier
footprint DO201-15
pins: A, C

## ES2D
designator D?, comment <B>DIODE</B><p> / super fast rectifier, 2 A
footprint SMB
pins: A, C

## FE2A
designator D?, comment <B>DIODE</B>
footprint DO204-10
pins: A, C

## FE3A
designator D?, comment <B>DIODE</B>
footprint G4-12
pins: A, C

## FE5D
designator D?, comment <B>DIODE</B>
footprint G4-12
pins: A, C

## FEP16AT
designator D?, comment <B>DIODE</B><p> / dual ultra-fast recovery rectifier, common cathode
footprint TO220ABS
pins: A1, A2, C

## FEP30AP
designator D?, comment <B>DIODE</B><p> / dual ultra-fast recovery rectifier, common cathode
footprint TO3P
pins: 1 A1, 2 C, 3 A2

## FES08AT
designator D?, comment <B>DIODE</B><p> / ultra-fast recovery rectifier
footprint DO220S
pins: A, C

## GE1001
designator D?, comment <B>DIODE</B>
footprint DO204-10
pins: A, C

## GF1
designator D?, comment <B>DIODE</B>
footprint SMA-DO214AC
pins: A, K C

## GI820
designator D?, comment <B>DIODE</B><p> / fast-recovery silicon diode, 6 A (Diotec)
footprint P6-15
pins: A, C

## GP15
designator D?, comment <B>DIODE</B><p> / low leakage at high temperature, 2 A (Diotec)
footprint DO15-12
pins: A, C

## GT32
designator D?, comment Trigger <B>DIODE</B>
footprint GT32
pins: 1, 2

## ICTE5
designator D?, comment Transient-suppressor <B>DIODE</B>
footprint C4111-15
pins: A, C

## MBD701
designator D?, comment UHF <B>DIODE</B>
footprint TO92H
pins: 1 A, 2 C

## MBR0520LT
designator D?, comment <b>SCHOTTKY BARRIER RECTIFIER</b><p> / Source: http://onsemi.com .. MBR0520LT1-D.pdf
footprint SOD123
pins: A, C

## MBR750
designator D?, comment <B>DIODE</B><p> / barrier rectifier, 7.5 A, 50 V
footprint TO220AC
pins: A, C

## MBR3035CT
designator D?, comment <B>DIODE</B><p> / dual barrier rectifier, 30 A, 30 V, common cathode
footprint C1103
pins: A1, A2, C C@1 C

## MBRA340T3
designator D?, comment <b>Surface Mount Schottky Power Rectifier</b><p> / Source: http://www.onsemi.com/pub_link/Collateral/MBRA340T3-D.PDF
footprint SMA
pins: A, C

## MBRS3*0T3
designator D?, comment <b>SCHOTTKY BARRIER RECTIFIER 3.0 AMPERES 20, 30, 40 VOLT</b><p> / Source: MBRS340T3-D.pdf
footprint SMC
pins: A, C

## MBRS130LT3
designator D?, comment <b>Schottky Power Rectifier</b><p> / Source: http://www.onsemi.com/pub/Collateral/MBRS130LT3-D.PDF
footprint SMB
pins: A, C

## MUR150RL
designator D?, comment <B>DIODE</B>
footprint DO41-10
pins: A, C

## MUR440RL
designator D?, comment <B>DIODE</B><p> / ultra-fast recovery rectifier, Vrrm = 40 V, 4 A
footprint C2673
pins: A, C

## MUR620CT
designator D?, comment <B>DIODE</B><p> / dual rectifier, 6 A, 200 V, common cathode
footprint TO220AB
pins: A1, A2, C

## MUR810
designator D?, comment <B>DIODE</B>
footprint TO220ACS
pins: A, C

## MUR820
designator D?, comment <B>DIODE</B>
footprint C221B1A
pins: A, C

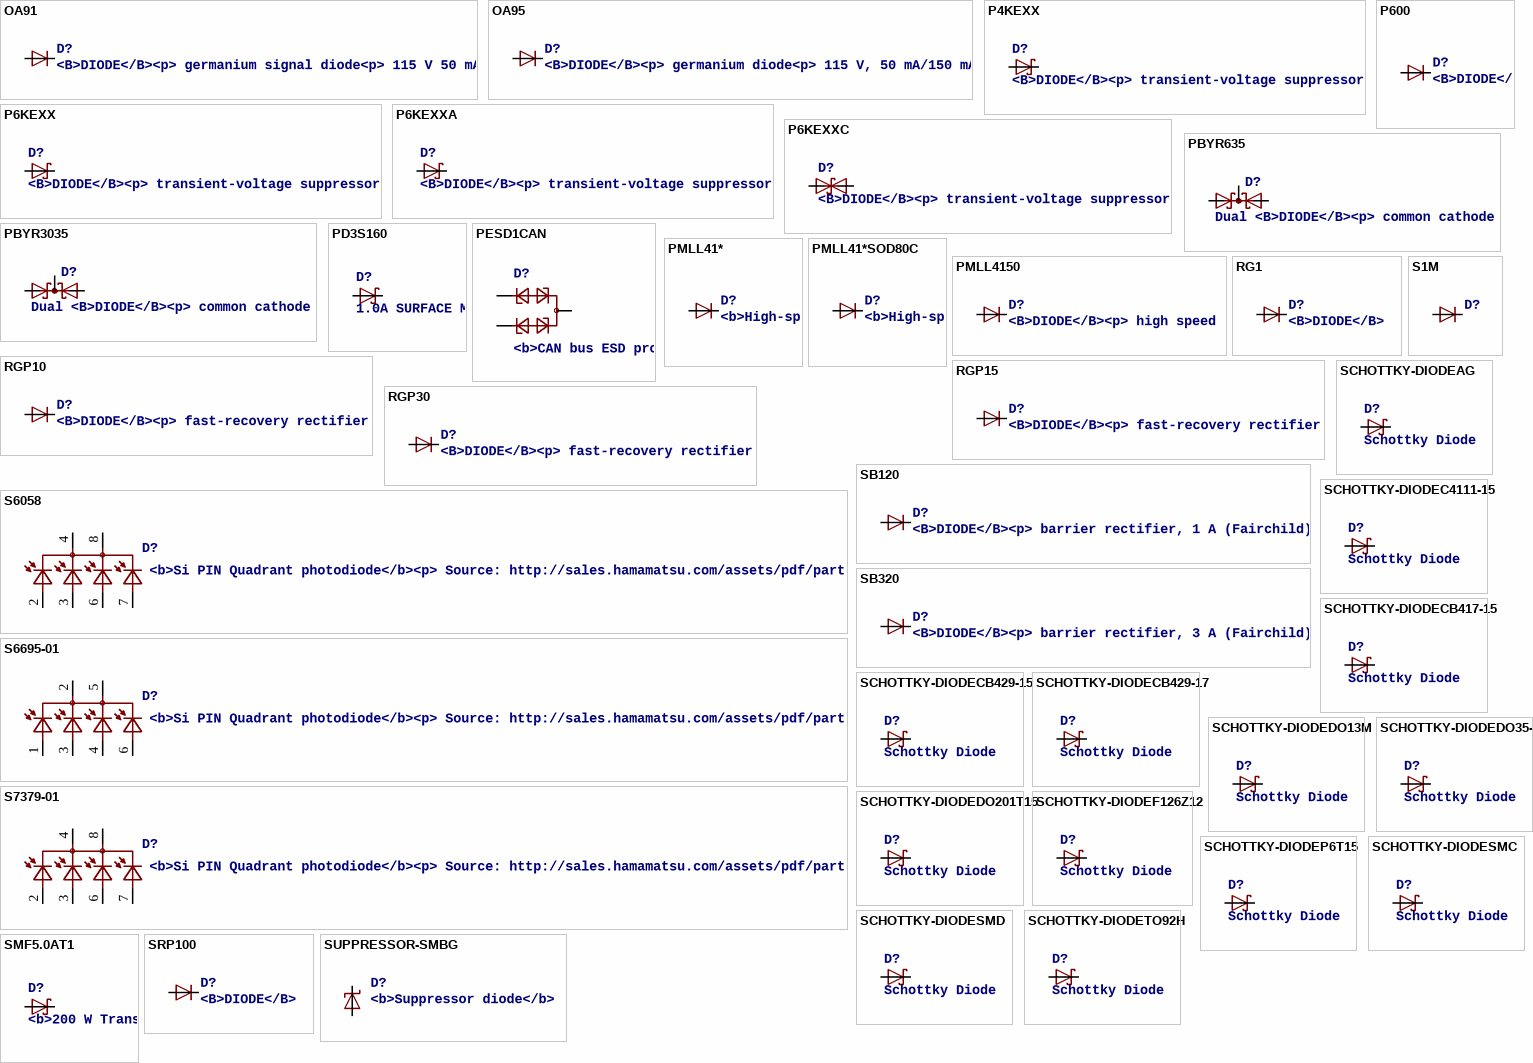
[diagram p7: symbols OA91 to SUPPRESSOR-SMBG]

## OA91
designator D?, comment <B>DIODE</B><p> / germanium signal diode<p> / 115 V 50 mA
footprint DO07
pins: A, C

## OA95
designator D?, comment <B>DIODE</B><p> / germanium diode<p> / 115 V, 50 mA/150 mA
footprint DO07
pins: A, C

## P4KEXX
designator D?, comment <B>DIODE</B><p> / transient-voltage suppressor
footprint DO41-10
pins: A, C

## P6KEXX
designator D?, comment <B>DIODE</B><p> / transient-voltage suppressor
footprint CB417-15
pins: A, C

## P6KEXXA
designator D?, comment <B>DIODE</B><p> / transient-voltage suppressor
footprint C1702-15
pins: A, C

## P6KEXXC
designator D?, comment <B>DIODE</B><p> / transient-voltage suppressor
footprint CB417-15
pins: A 1, C 2

## P600
designator D?, comment <B>DIODE</B><p> / high voltage diode, silicon rectifier<p> / 1.0 A to 6.0 A, 50 V to 1300 V<p> / http://www.kosemi.com/product/diosr.html
footprint P6-15
pins: A, C

## PBYR635
designator D?, comment Dual <B>DIODE</B><p> / common cathode
footprint SOT82S
pins: A1, A2, C

## PBYR3035
designator D?, comment Dual <B>DIODE</B><p> / common cathode
footprint SOT93S
pins: A1, A2, C

## PD3S160
designator D?, comment 1.0A SURFACE MOUNT SCHOTTKY BARRIER RECTIFIER POWERDI ® 323 <p> / Source: http://www.diodes.com/datasheets/ds30899.pdf
footprint POWERDI323
pins: A, C

## PESD1CAN
designator D?, comment <b>CAN bus ESD protection diode</b><p> / Source: http://www.nxp.com/documents/data_sheet/PESD1CAN.pdf
footprint SOT23
pins: 1, 2, 3

## PMLL41*
designator D?, comment <b>High-speed diodes</b><p> / Source: http://www.semiconductors.philips.com/acrobat_download/datasheets/PMLL4150_2.pdf
footprint POWERMITE
pins: 1 C, 2 A

## PMLL41*SOD80C
designator D?, comment <b>High-speed diodes</b><p> / Source: http://www.semiconductors.philips.com/acrobat_download/datasheets/PMLL4150_2.pdf
footprint SOD80C
pins: A, C

## PMLL4150
designator D?, comment <B>DIODE</B><p> / high speed
footprint SOD80C
pins: A, C

## RG1
designator D?, comment <B>DIODE</B>
footprint DO204-10
pins: A, C

## RGP10
designator D?, comment <B>DIODE</B><p> / fast-recovery rectifier
footprint DO41-10
pins: A, C

## RGP15
designator D?, comment <B>DIODE</B><p> / fast-recovery rectifier
footprint DO15-12
pins: A, C

## RGP30
designator D?, comment <B>DIODE</B><p> / fast-recovery rectifier
footprint DO201-15
pins: A, C

## S1M
designator D?
footprint SMA
pins: A, C

## S6058
designator D?, comment <b>Si PIN Quadrant photodiode</b><p> / Source: http://sales.hamamatsu.com/assets/pdf/parts_S/S7379-01_etc.pdf
footprint S6058
pins: 2 AA, 3 AB, 4 C1, 6 AC, 7 AD, 8 C2

## S6695-01
designator D?, comment <b>Si PIN Quadrant photodiode</b><p> / Source: http://sales.hamamatsu.com/assets/pdf/parts_S/S7379-01_etc.pdf
footprint S6695-01
pins: 1 AA, 2 C1, 3 AB, 4 AC, 5 C2, 6 AD

## S7379-01
designator D?, comment <b>Si PIN Quadrant photodiode</b><p> / Source: http://sales.hamamatsu.com/assets/pdf/parts_S/S7379-01_etc.pdf
footprint S7379-01
pins: 2 AA, 3 AB, 4 C1, 6 AC, 7 AD, 8 C2

## SB120
designator D?, comment <B>DIODE</B><p> / barrier rectifier, 1 A (Fairchild)
footprint DO41-10
pins: A, C

## SB320
designator D?, comment <B>DIODE</B><p> / barrier rectifier, 3 A (Fairchild)
footprint DO201-15
pins: A, C

## SCHOTTKY-DIODEAG
designator D?, comment Schottky Diode
footprint AG
pins: A, C

## SCHOTTKY-DIODEC4111-15
designator D?, comment Schottky Diode
footprint C4111-15
pins: A, C

## SCHOTTKY-DIODECB417-15
designator D?, comment Schottky Diode
footprint CB417-15
pins: A, C

## SCHOTTKY-DIODECB429-15
designator D?, comment Schottky Diode
footprint CB429-15
pins: A, C

## SCHOTTKY-DIODECB429-17
designator D?, comment Schottky Diode
footprint CB429-17
pins: A, C

## SCHOTTKY-DIODEDO13M
designator D?, comment Schottky Diode
footprint DO13M
pins: A, C

## SCHOTTKY-DIODEDO35-7
designator D?, comment Schottky Diode
footprint DO35-7
pins: A, C

## SCHOTTKY-DIODEDO201T15
designator D?, comment Schottky Diode
footprint DO201T15
pins: A, C

## SCHOTTKY-DIODEF126Z12
designator D?, comment Schottky Diode
footprint F126Z12
pins: A, C

## SCHOTTKY-DIODEP6T15
designator D?, comment Schottky Diode
footprint P6T15
pins: A, C

## SCHOTTKY-DIODESMC
designator D?, comment Schottky Diode
footprint SMC
pins: A, C

## SCHOTTKY-DIODESMD
designator D?, comment Schottky Diode
footprint SMB
pins: A, C

## SCHOTTKY-DIODETO92H
designator D?, comment Schottky Diode
footprint TO92H
pins: 1 A, 2 C

## SMF5.0AT1
designator D?, comment <b>200 W Transient Voltage Suppressor</b><p> / Source: <a href="http://www.onsemi.com/pub_link/Collateral/SMF5.0AT1-D.PDF">Data sheet</b>
footprint SOD123FL
pins: A, C

## SRP100
designator D?, comment <B>DIODE</B>
footprint DO41-10
pins: A, C

## SUPPRESSOR-SMBG
designator D?, comment <b>Suppressor diode</b>
footprint SMBG
pins: A, C

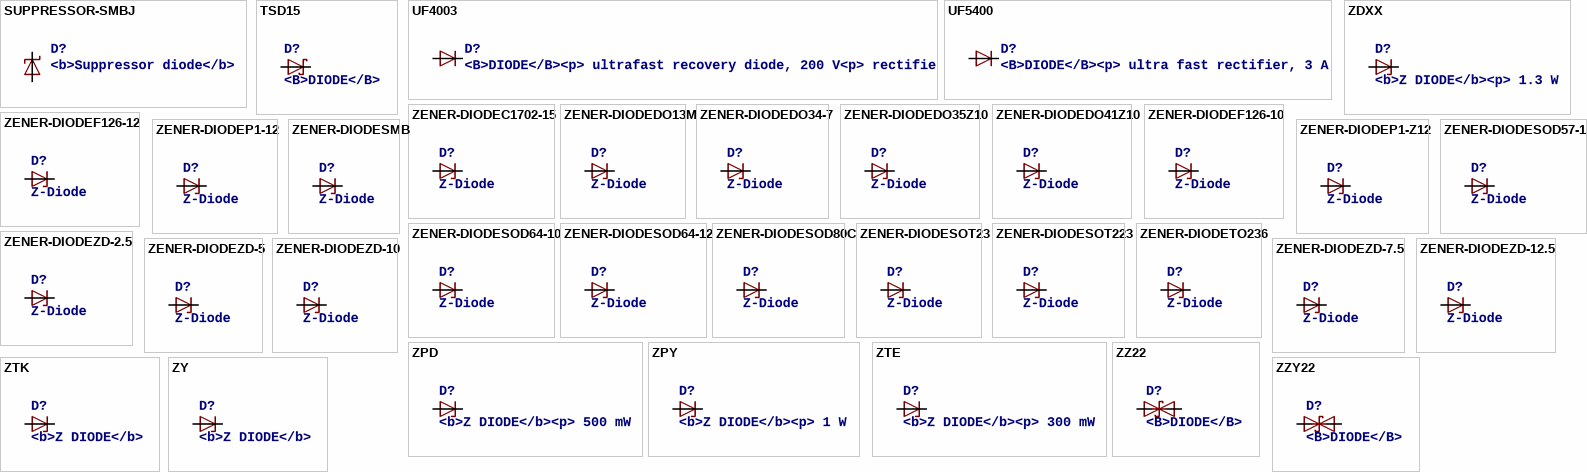
[diagram p8: symbols SUPPRESSOR-SMBJ to ZZY22]

## SUPPRESSOR-SMBJ
designator D?, comment <b>Suppressor diode</b>
footprint SMBJ
pins: A, C

## TSD15
designator D?, comment <B>DIODE</B>
footprint CB429-15
pins: A, C

## UF4003
designator D?, comment <B>DIODE</B><p> / ultrafast recovery diode, 200 V<p> / rectifier
footprint DO41-10
pins: A, C

## UF5400
designator D?, comment <B>DIODE</B><p> / ultra fast rectifier, 3 A
footprint DO201-15
pins: A, C

## ZDXX
designator D?, comment <b>Z DIODE</b><p> / 1.3 W
footprint DO13M
pins: A, C

## ZENER-DIODEC1702-15
designator D?, comment Z-Diode
footprint C1702-15
pins: A, C

## ZENER-DIODEDO13M
designator D?, comment Z-Diode
footprint DO13M
pins: A, C

## ZENER-DIODEDO34-7
designator D?, comment Z-Diode
footprint DO34Z7
pins: A, C

## ZENER-DIODEDO35Z10
designator D?, comment Z-Diode
footprint DO35Z10
pins: A, C

## ZENER-DIODEDO41Z10
designator D?, comment Z-Diode
footprint DO41Z10
pins: A, C

## ZENER-DIODEF126-10
designator D?, comment Z-Diode
footprint F126Z10
pins: A, C

## ZENER-DIODEF126-12
designator D?, comment Z-Diode
footprint F126Z12
pins: A, C

## ZENER-DIODEP1-12
designator D?, comment Z-Diode
footprint P1Z12
pins: A, C

## ZENER-DIODEP1-Z12
designator D?, comment Z-Diode
footprint P1Z12
pins: A, C

## ZENER-DIODESMB
designator D?, comment Z-Diode
footprint SMB
pins: A, C

## ZENER-DIODESOD57-10
designator D?, comment Z-Diode
footprint SOD57Z10
pins: A, C

## ZENER-DIODESOD64-10
designator D?, comment Z-Diode
footprint SOD64Z10
pins: A, C

## ZENER-DIODESOD64-12
designator D?, comment Z-Diode
footprint SOD64Z12
pins: A, C

## ZENER-DIODESOD80C
designator D?, comment Z-Diode
footprint SOD80C
pins: A, C

## ZENER-DIODESOT23
designator D?, comment Z-Diode
footprint SOT23
pins: 1 A, 3 C

## ZENER-DIODESOT223
designator D?, comment Z-Diode
footprint SOT223
pins: 1 A, 4 C

## ZENER-DIODETO236
designator D?, comment Z-Diode
footprint TO236
pins: A, C

## ZENER-DIODEZD-2.5
designator D?, comment Z-Diode
footprint ZDIO-2.5
pins: A, C

## ZENER-DIODEZD-5
designator D?, comment Z-Diode
footprint ZDIO-5
pins: A, C

## ZENER-DIODEZD-7.5
designator D?, comment Z-Diode
footprint ZDIO-7.5
pins: A, C

## ZENER-DIODEZD-10
designator D?, comment Z-Diode
footprint ZDIO-10
pins: A, C

## ZENER-DIODEZD-12.5
designator D?, comment Z-Diode
footprint ZDIO12.5
pins: A, C

## ZPD
designator D?, comment <b>Z DIODE</b><p> / 500 mW
footprint DO35Z10
pins: A, C

## ZPY
designator D?, comment <b>Z DIODE</b><p> / 1 W
footprint DO41Z10
pins: A, C

## ZTE
designator D?, comment <b>Z DIODE</b><p> / 300 mW
footprint DO35Z10
pins: A, C

## ZTK
designator D?, comment <b>Z DIODE</b>
footprint DO35Z10
pins: A, C

## ZY
designator D?, comment <b>Z DIODE</b>
footprint P1Z12
pins: A, C

## ZZ22
designator D?, comment <B>DIODE</B>
footprint P2-15
pins: A 1, C 2

## ZZY22
designator D?, comment <B>DIODE</B>
footprint P3-15
pins: A 1, C 2